# Altium footprint library PAD_THERMAL_RELIEF.PcbLib: 1 footprints
Each footprint in its own frame and in the unit in brackets; x right, y up, seen from the top. Pads: shape width x height; smd on the part's side, far side on the other; paste and mask are expansions set on the pad; w line width, h text height; cw(c..) or ccw(c..) is an arc to the next point about the centre after c.
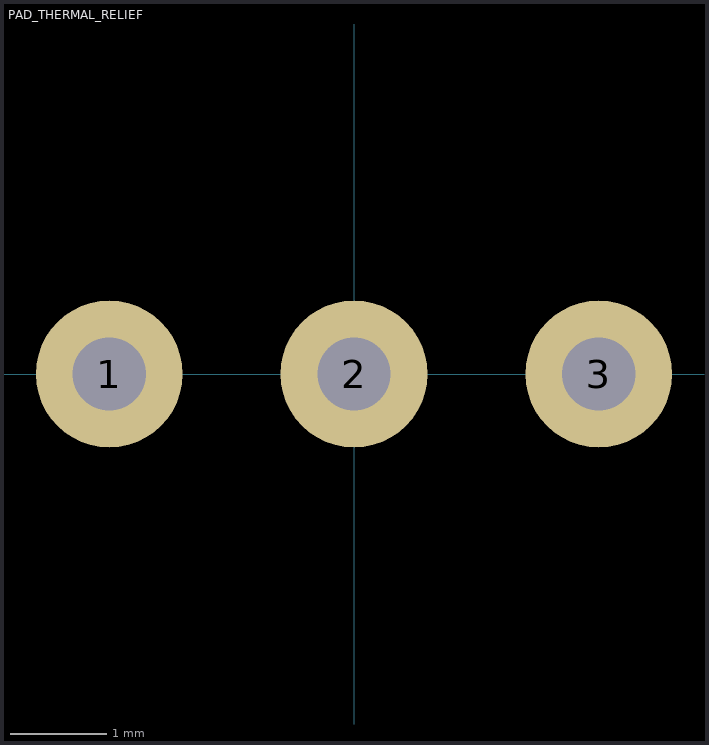
[diagram p0: the footprint, top view; thin cyan lines are the x and y axes]

## PAD_THERMAL_RELIEF [mil] "Pads with various thermal relief entries"
pads (3):
  round 60 hole 30 paste+0 mask+4: 1(-100,0) 2(0,0) 3(100,0)